# Altium schematic symbol library 694106301002.SchLib: 1 symbol
Pins are listed as number, name and electrical type; pins without a type are passive.

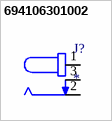
[diagram p0: symbol 694106301002]

## 694106301002
designator J?
<b>WR-DC_DC Power Jack_Right Angled_THT Center Pin Ã˜2.0_Plug ID Ã˜2.05_Plug OD Ã˜5.5 ;</b>=>Code : Con_WR-DC_THT_694108301002_694106301002 <p><a href="http://katalog.we-online.de/media/images/v2/Family_WR-DC_DC_Power_Jack_Right_Angled_THT_69410x301002.jpg"> <img src="http://katalog.we-online.de/media/images/v2/Family_WR-DC_DC_Power_Jack_Right_Angled_THT_69410x301002.jpg" width="320"></a><p> Details see: <a href="http://katalog.we-online.de/em/datasheet/6941xx301002.pdf">http://katalog.we-online.de/em/datasheet/6941xx301002.pdf</a><p> Created 2014-10-08, Karrer Zheng<br> 2014 (C) Wurth Elektronik; MF: {'manufacturer': u'Wurth Electronics'}; Package: None; Price: None; Availability: Unavailable; MP: 694106301002; Value: *
footprint 69410X301002
pins: 1, 2, 3